# EAGLE library part HC-0X (library Sterling-BlueTooth)
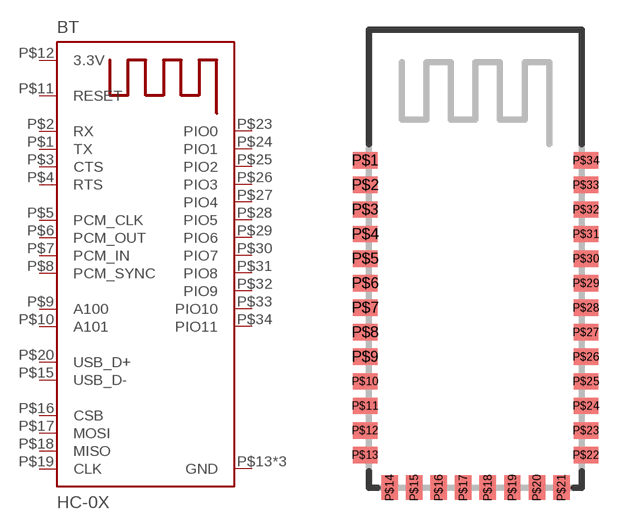
[diagram p0: symbol with the pads of HC-0X; footprint HC-0X]

Designator prefix BT

## HC-0X  [HC-0X]
P$1  TX
P$2  RX
P$3  CTS
P$4  RTS
P$5  PCM_CLK
P$6  PCM_OUT
P$7  PCM_IN
P$8  PCM_SYNC
P$9  A100
P$10  A101
P$11  RESET
P$12  3.3V
P$13  GND
P$15  USB_D-
P$16  CSB
P$17  MOSI
P$18  MISO
P$19  CLK
P$20  USB_D+
P$21  GND
P$22  GND
P$23  PIO0
P$24  PIO1
P$25  PIO2
P$26  PIO3
P$27  PIO4
P$28  PIO5
P$29  PIO6
P$30  PIO7
P$31  PIO8
P$32  PIO9
P$33  PIO10
P$34  PIO11

## Footprint HC-0X (pad centres in mm)
smd 1.5 x 1: P$1 -6.75,9; P$2 -6.75,7.5; P$3 -6.75,6; P$4 -6.75,4.5; P$5 -6.75,3; P$6 -6.75,1.5; P$7 -6.75,0; P$8 -6.75,-1.5; P$9 -6.75,-3; P$10 -6.75,-4.5; P$11 -6.75,-6; P$12 -6.75,-7.5; P$13 -6.75,-9; P$22 6.75,-9; P$23 6.75,-7.5; P$24 6.75,-6; P$25 6.75,-4.5; P$26 6.75,-3; P$27 6.75,-1.5; P$28 6.75,0; P$29 6.75,1.5; P$30 6.75,3; P$31 6.75,4.5; P$32 6.75,6; P$33 6.75,7.5; P$34 6.75,9
smd 1 x 1.5: P$14 -5.25,-11; P$15 -3.75,-11; P$16 -2.25,-11; P$17 -0.75,-11; P$18 0.75,-11; P$19 2.25,-11; P$20 3.75,-11; P$21 5.25,-11